# EAGLE library part AUDIO_AMP (library P442)
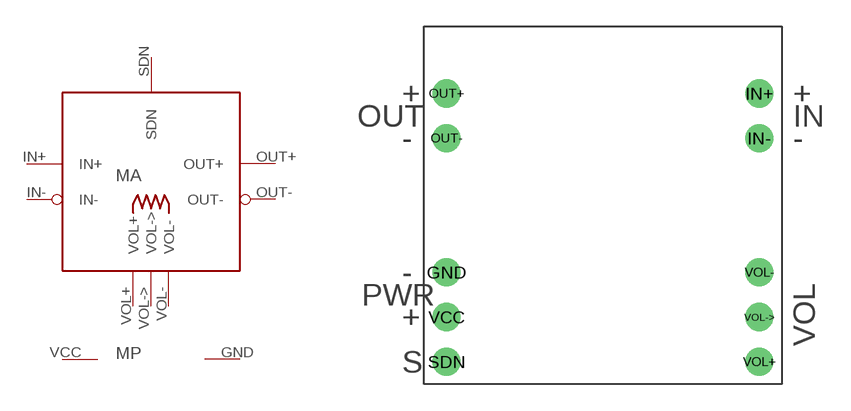
[diagram p4: symbol with the pads of AUDIO_AMP; footprint AUDIO_AMP]

Designator prefix M; gates A=AUDIO_AMP P=PWR_GND

## AUDIO_AMP  [AUDIO_AMP]
GND  P:GND  pwr
IN+  A:IN+  in
IN-  A:IN-  in
OUT+  A:OUT+  out
OUT-  A:OUT-  out
SDN  A:SDN  in
VCC  P:VCC  pwr
VOL+  A:VOL+  pas
VOL-  A:VOL-  pas
VOL->  A:VOL->  pas

## Footprint AUDIO_AMP (pad centres in mm)
drill 1.067: GND 1.27,6.35; IN+ 19.05,16.51; IN- 19.05,13.97; OUT+ 1.27,16.51; OUT- 1.27,13.97; SDN 1.27,1.27; VCC 1.27,3.81; VOL+ 19.05,1.27; VOL- 19.05,6.35; VOL-> 19.05,3.81